# Altium schematic symbol library PC817XNNSZ1B.SchLib: 1 symbol
Pins are listed as number, name and electrical type; pins without a type are passive.

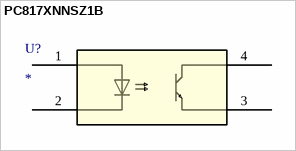
[diagram p0: symbol PC817XNNSZ1B]

## PC817XNNSZ1B
designator U?
No Description Available; Mfr_Name: Sharp; RefDes: RefDes; Type: Type
footprint PC817X4NSZ1B_SHP
pins: 1, 2, 3, 4